# EAGLE library part AD524 (library powerfilm)
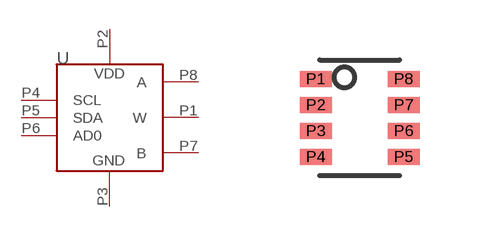
[diagram p3: symbol with the pads of SOT-23-8; footprint SOT-23-8]

Designator prefix U

## AD524 (DIGIKEY: AD5245BRJZ10-R2CT-ND)  [SOT-23-8]
P1  W
P2  VDD
P3  GND
P4  SCL
P5  SDA
P6  AD0
P7  B
P8  A

## Footprint SOT-23-8 (pad centres in mm)
smd 0.8 x 0.4: P1 -1.1,0.975; P2 -1.1,0.325; P3 -1.1,-0.325; P4 -1.1,-0.975; P5 1.1,-0.975; P6 1.1,-0.325; P7 1.1,0.325; P8 1.1,0.975